# EAGLE library part TMC457-BC (library trinamic)
TRINAMIC 1-axis stepper and piezo motion controller with S-ramps and encoder feedback Information given in this library is believed to be accurate and reliable. However no warranty is given for its correctness. Datasheet for TMC457 <http://www.trinamic.com/tmc/media/Downloads/integrated_circuits/TMC457/tmc457_datasheet.pdf> Description 1-axis stepper and piezo motion controller with S-ramps and encoder feedback The TMC457 is a high-end single axis micro stepping motion controller for 2-phase bipolar stepper motors, piezo motors (Piezo LEGS™ ). Via step / direction interface 3-phase stepper motors can also be controlled (requires additional TMC332). It adds to any microcontroller or processor with SPI interface. It is intended for applications, where a precise and fast, jerk-free motion profile is desired. The TMC457 supports linear and S-shaped velocity ramps. It™ s chopSync™ feature allows high speed movement avoiding resonances. An encoder can be added for extremely quick and precise positioning using the internal hardware PID regulator easyPID™ and for increased reliability / fault detection. For maximum flexibility all motion control parameters (target position, target velocity, acceleration, deceleration and bow) can be changed on-the-fly at any time during motion. Specifications Main characteristics S-shaped and linear ramps with on-the-fly change of all parameters programmable high resolution sequencer with 12-bit µstep LUT incremental encoder interface with flexible brought range scaling easyPID™ fast and stable PID controller 32bit register (mHz to MHz) reference switch processing virtual stop sw. (programmable soft limits) position pulse output to trigger events synchronisation of multiple axis via step/direction chopSync™ feature for high speed operation without resonance problems analog high resolution driver control via external low-cost 12-bit DAC energy saving by automatic load angle dependent current control Interface SPI host interface step/direction output stallGuard™ interface for TMC246/TMC249 stepper motor driver Electrical data 3.3V compatible I/Os 1.5V core supply Package FBGA144 (13*13mm2) RoHS compliant
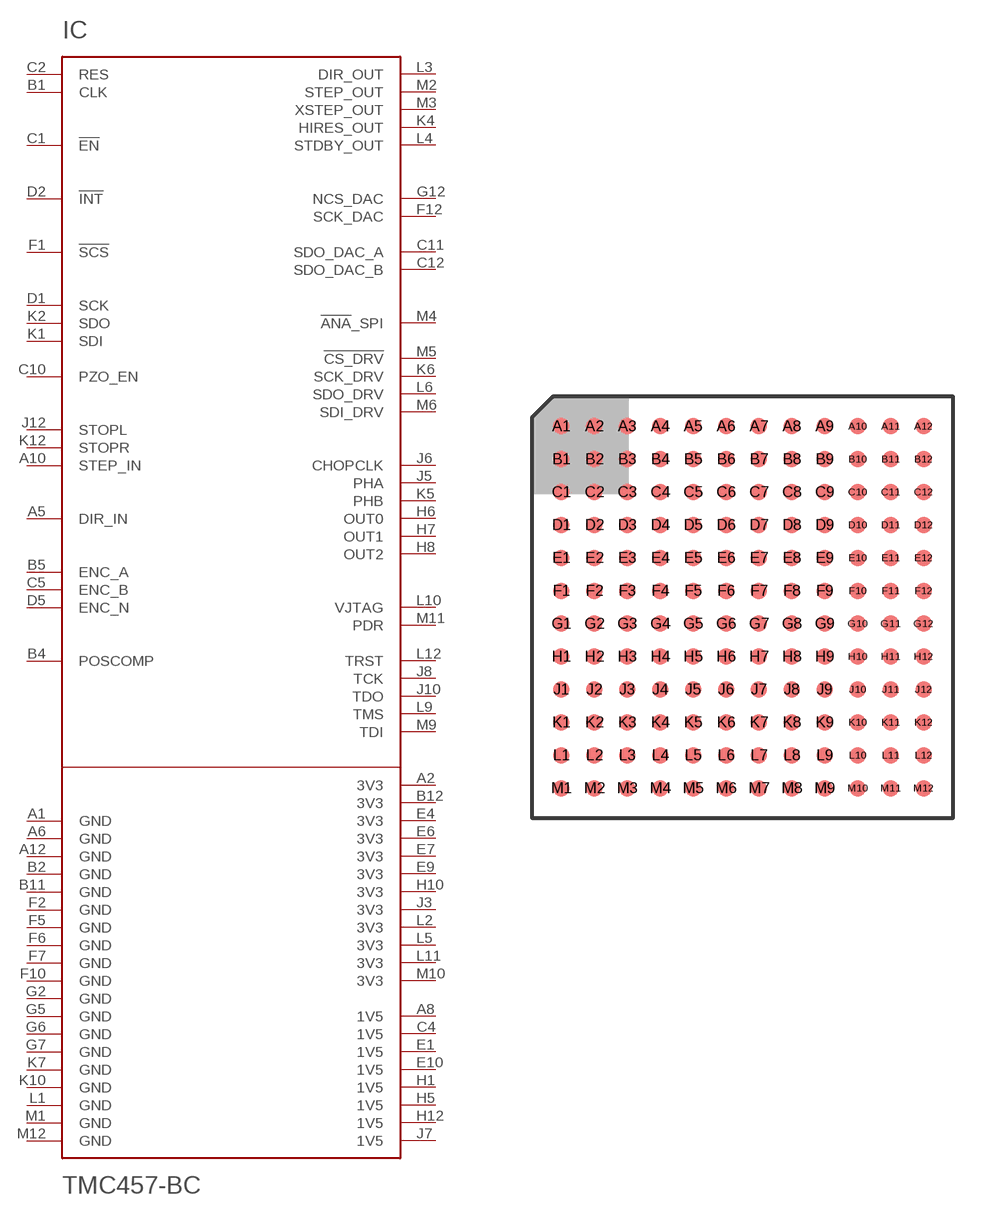
[diagram p20: symbol with the pads of FBGA144; footprint FBGA144]

Designator prefix IC

## TMC457-BC  [FBGA144]
A1  GND  in
A2  3V3  in
A5  DIR_IN  in
A6  GND  in
A8  1V5  in
A10  STEP_IN  in
A12  GND  in
B1  CLK  in
B2  GND  in
B4  POSCOMP  out
B5  ENC_A  in
B11  GND  in
B12  3V3  in
C1  !EN  in
C2  RES  in
C4  1V5  in
C5  ENC_B  in
C10  PZO_EN  in
C11  SDO_DAC_A  out
C12  SDO_DAC_B  out
D1  SCK  in
D2  !INT  out
D5  ENC_N  in
E1  1V5  in
E4  3V3  in
E6  3V3  in
E7  3V3  in
E9  3V3  in
E10  1V5  in
F1  !SCS  in
F2  GND  in
F5  GND  in
F6  GND  in
F7  GND  in
F10  GND  in
F12  SCK_DAC  out
G2  GND  in
G5  GND  in
G6  GND  in
G7  GND  in
G12  NCS_DAC  out
H1  1V5  in
H5  1V5  in
H6  OUT0  out
H7  OUT1  out
H8  OUT2  out
H10  3V3  in
H12  1V5  in
J3  3V3  in
J5  PHA  out
J6  CHOPCLK  out
J7  1V5  in
J8  TCK  in
J10  TDO  out
J12  STOPL  in
K1  SDI  in
K2  SDO  hiz
K4  HIRES_OUT
K5  PHB  out
K6  SCK_DRV  out
K7  GND  in
K10  GND  in
K12  STOPR  in
L1  GND  in
L2  3V3  in
L3  DIR_OUT
L4  STDBY_OUT
L5  3V3  in
L6  SDO_DRV  out
L9  TMS  in
L10  VJTAG  in
L11  3V3  in
L12  TRST  in
M1  GND  in
M2  STEP_OUT
M3  XSTEP_OUT
M4  !ANA!_SPI  in
M5  !CS_DRV  out
M6  SDI_DRV  in
M9  TDI  in
M10  3V3  in
M11  PDR  in
M12  GND  in

## Footprint FBGA144 (pad centres in mm)
smd 0.5 x 0.5: A1 -5.5,5.5; A2 -4.5,5.5; A3 -3.5,5.5; A4 -2.5,5.5; A5 -1.5,5.5; A6 -0.5,5.5; A7 0.5,5.5; A8 1.5,5.5; A9 2.5,5.5; A10 3.5,5.5; A11 4.5,5.5; A12 5.5,5.5; B1 -5.5,4.5; B2 -4.5,4.5; B3 -3.5,4.5; B4 -2.5,4.5; B5 -1.5,4.5; B6 -0.5,4.5; B7 0.5,4.5; B8 1.5,4.5; B9 2.5,4.5; B10 3.5,4.5; B11 4.5,4.5; B12 5.5,4.5; C1 -5.5,3.5; C2 -4.5,3.5; C3 -3.5,3.5; C4 -2.5,3.5; C5 -1.5,3.5; C6 -0.5,3.5; C7 0.5,3.5; C8 1.5,3.5; C9 2.5,3.5; C10 3.5,3.5; C11 4.5,3.5; C12 5.5,3.5; D1 -5.5,2.5; D2 -4.5,2.5; D3 -3.5,2.5; D4 -2.5,2.5; D5 -1.5,2.5; D6 -0.5,2.5; D7 0.5,2.5; D8 1.5,2.5; D9 2.5,2.5; D10 3.5,2.5; D11 4.5,2.5; D12 5.5,2.5; E1 -5.5,1.5; E2 -4.5,1.5; E3 -3.5,1.5; E4 -2.5,1.5; E5 -1.5,1.5; E6 -0.5,1.5; E7 0.5,1.5; E8 1.5,1.5; E9 2.5,1.5; E10 3.5,1.5; E11 4.5,1.5; E12 5.5,1.5; F1 -5.5,0.5; F2 -4.5,0.5; F3 -3.5,0.5; F4 -2.5,0.5; F5 -1.5,0.5; F6 -0.5,0.5; F7 0.5,0.5; F8 1.5,0.5; F9 2.5,0.5; F10 3.5,0.5; F11 4.5,0.5; F12 5.5,0.5; G1 -5.5,-0.5; G2 -4.5,-0.5; G3 -3.5,-0.5; G4 -2.5,-0.5; G5 -1.5,-0.5; G6 -0.5,-0.5; G7 0.5,-0.5; G8 1.5,-0.5; G9 2.5,-0.5; G10 3.5,-0.5; G11 4.5,-0.5; G12 5.5,-0.5; H1 -5.5,-1.5; H2 -4.5,-1.5; H3 -3.5,-1.5; H4 -2.5,-1.5; H5 -1.5,-1.5; H6 -0.5,-1.5; H7 0.5,-1.5; H8 1.5,-1.5; H9 2.5,-1.5; H10 3.5,-1.5; H11 4.5,-1.5; H12 5.5,-1.5; J1 -5.5,-2.5; J2 -4.5,-2.5; J3 -3.5,-2.5; J4 -2.5,-2.5; J5 -1.5,-2.5; J6 -0.5,-2.5; J7 0.5,-2.5; J8 1.5,-2.5; J9 2.5,-2.5; J10 3.5,-2.5; J11 4.5,-2.5; J12 5.5,-2.5; K1 -5.5,-3.5; K2 -4.5,-3.5; K3 -3.5,-3.5; K4 -2.5,-3.5; K5 -1.5,-3.5; K6 -0.5,-3.5; K7 0.5,-3.5; K8 1.5,-3.5; K9 2.5,-3.5; K10 3.5,-3.5; K11 4.5,-3.5; K12 5.5,-3.5; L1 -5.5,-4.5; L2 -4.5,-4.5; L3 -3.5,-4.5; L4 -2.5,-4.5; L5 -1.5,-4.5; L6 -0.5,-4.5; L7 0.5,-4.5; L8 1.5,-4.5; L9 2.5,-4.5; L10 3.5,-4.5; L11 4.5,-4.5; L12 5.5,-4.5; M1 -5.5,-5.5; M2 -4.5,-5.5; M3 -3.5,-5.5; M4 -2.5,-5.5; M5 -1.5,-5.5; M6 -0.5,-5.5; M7 0.5,-5.5; M8 1.5,-5.5; M9 2.5,-5.5; M10 3.5,-5.5; M11 4.5,-5.5; M12 5.5,-5.5